# EAGLE library part CTC-4P3T (library SPCoast)
ROTARY SWITCH C&K
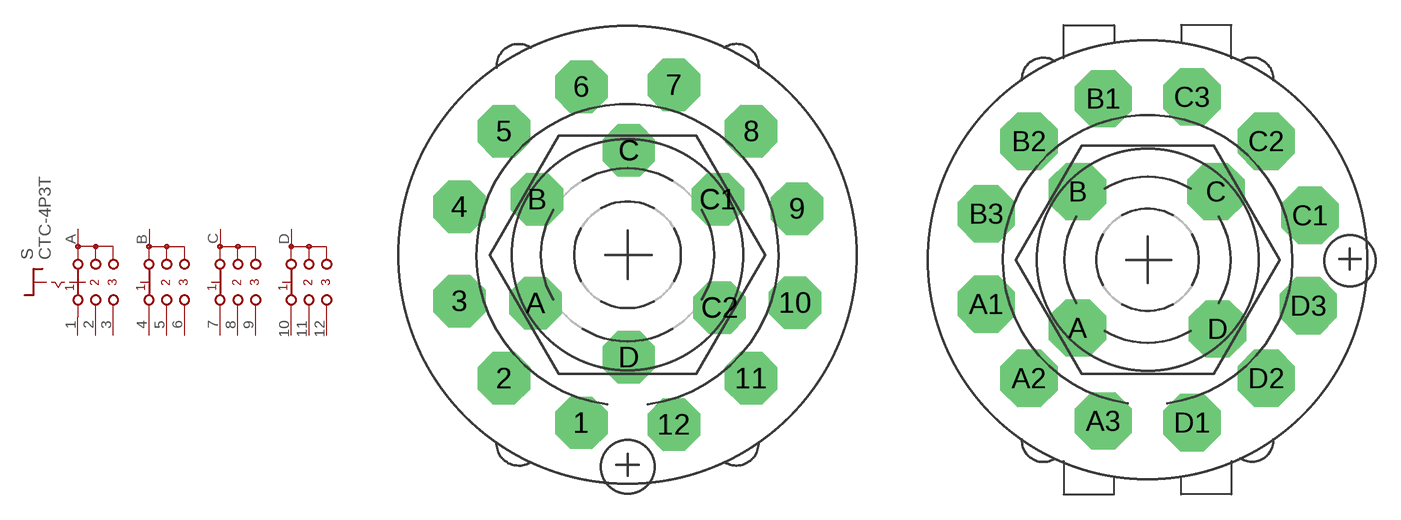
[diagram p40: symbol with the pads of CK10; footprints CK10, CTC-4P3T]

Designator prefix S

## CTC-4P3TUNTESTED  [CK10]
1  A1  pas
2  A2  pas
3  A3  pas
4  B1  pas
5  B2  pas
6  B3  pas
7  C1  pas
8  C2  pas
9  C3  pas
10  D1  pas
11  D2  pas
12  D3  pas
A  A  pas
B  B  pas
C  C  pas
D  D  pas

## CTC-4P3T  [CTC-4P3T]
A  A  pas
A1  A1  pas
A2  A2  pas
A3  A3  pas
B  B  pas
B1  B1  pas
B2  B2  pas
B3  B3  pas
C  C  pas
C1  C1  pas
C2  C2  pas
C3  C3  pas
D  D  pas
D1  D1  pas
D2  D2  pas
D3  D3  pas

## Footprint CK10 (pad centres in mm)
ROTARY SWITCH - CK
drill 2 octagon: 1 -2.645,-9.617; 2 -7.072,-7.072; 3 -9.617,-2.645; 4 -9.617,2.745; 5 -7.072,7.072; 6 -2.645,9.617; 7 2.645,9.717; 8 7.072,7.072; 9 9.682,2.645; 10 9.582,-2.745; 11 7.072,-7.072; 12 2.645,-9.717; A -5.27,-2.77; B -5.17,3.17; C 0.07,5.97; C1 5.17,3.17; C2 5.27,-3.03; D 0.07,-5.87

## Footprint CTC-4P3T (pad centres in mm)
drill 2.4 octagon: A -4.17,-4.07; A1 -9.617,-2.645; A2 -7.072,-7.072; A3 -2.645,-9.617; B -4.17,4.07; B1 -2.645,9.617; B2 -7.072,7.072; B3 -9.617,2.745; C 4.07,4.07; C1 9.682,2.645; C2 7.072,7.072; C3 2.645,9.717; D 4.17,-4.13; D1 2.645,-9.717; D2 7.072,-7.072; D3 9.582,-2.745